# Altium footprint library sim800l.PcbLib: 1 footprints
Each footprint in its own frame and in the unit in brackets; x right, y up, seen from the top. Pads: shape width x height; smd on the part's side, far side on the other; paste and mask are expansions set on the pad; w line width, h text height; cw(c..) or ccw(c..) is an arc to the next point about the centre after c.
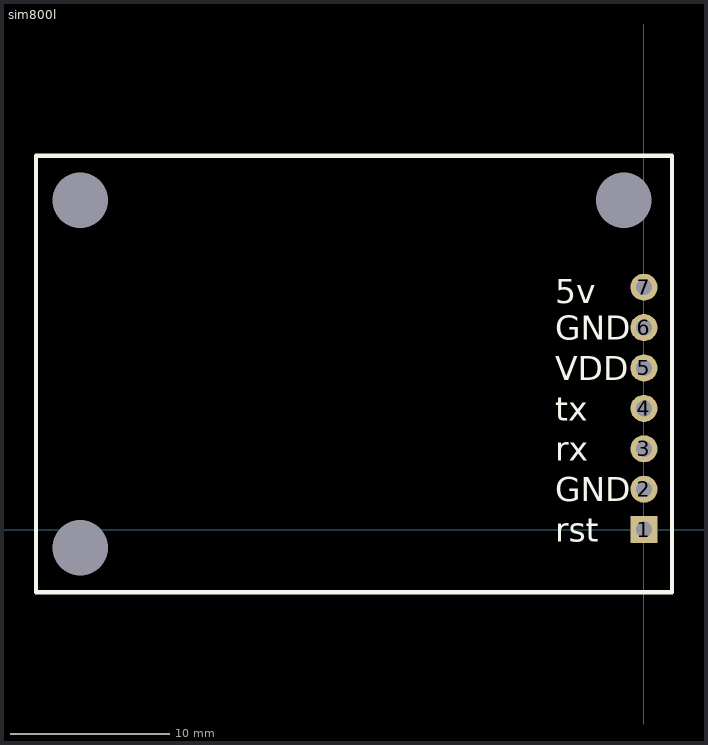
[diagram p0: the footprint, top view; thin cyan lines are the x and y axes]

## sim800l [mm]
pads (10):
  rect 1.7x1.7 hole 1: 1(0,0)
  round 1.7 hole 1: 2(0,2.54) 3(0,5.08) 4(0,7.62) 5(0,10.16) 6(0,12.7) 7(0,15.24)
  round 0 hole 3.5 unplated: 8(-35.433,-1.143) 8(-35.433,20.701) 8(-1.27,20.701)
Top Overlay:
  lines w0.254: -38.227,-3.937 -38.227,23.5 1.773,23.5 1.773,-3.937 -38.227,-3.937
  text "rst" at -5.588,-0.762 h1.52
  text "GND" at -5.588,1.778 h1.52
  text "rx" at -5.588,4.318 h1.52
  text "tx" at -5.588,6.858 h1.52
  text "VDD" at -5.588,9.398 h1.52
  text "GND" at -5.588,11.938 h1.52
  text "5v" at -5.588,14.224 h1.52
3D body "SIM800L_EVB-Module.step": height 16.46, standoff 2.7, extent -38.199,-4.006 1.651,23.564
3D body "User Library-PBS_(DS1023)_1line_connectors_h=5_0_8_5mm_step_2_54mm (1).step": height 8.5, standoff -3, extent -1.25,-1.52 1.25,16.76